# EAGLE library part WE-UNIT_NXP_750871035 (library wurth_elektronik_passive_rev16d)
Off-Line Transformer WE-Unit NXP - Nominal input voltage: 85-265 VAC - Operating temperature: -40°C to +125 °C - Isolation voltage 4 kVAC -- Especially designed for several ICs from NXP TEA1522T -- Universal input -- Smart meters -- Dimmable 12 V LED driver -- Offline-switch mode power supplies <http://katalog.we-online.de/media/images/ctm/UtUNIT_NXP_pf2.jpg> Details see: http://katalog.we-online.de/en/ctm/MID-UNIT_NXP/750871035? Updated by Dan Xu 2014-07-11 2014 (C) Würth Elektronik
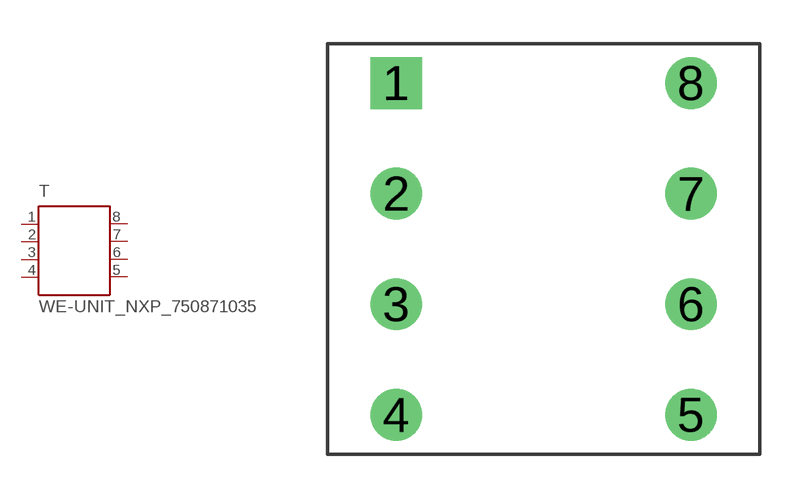
[diagram p56: symbol with the pads of WE_EE13/6/6_THT_HORIZONTAL_8PIN; footprint WE_EE13/6/6_THT_HORIZONTAL_8PIN]

Designator prefix T

## WE-UNIT_NXP_750871035  [WE_EE13/6/6_THT_HORIZONTAL_8PIN]
1  4  pas
2  3  pas
3  2  pas
4  1  pas
5  8  pas
6  7  pas
7  6  pas
8  5  pas

## Footprint WE_EE13/6/6_THT_HORIZONTAL_8PIN (pad centres in mm)
Transformer, EE13/6/6 THT Horizontal 8 Pins
drill 1.19 square: 1 -5.075,5.715
drill 1.19: 2 -5.075,1.905; 3 -5.075,-1.905; 4 -5.075,-5.715; 5 5.075,-5.715; 6 5.075,-1.905; 7 5.075,1.905; 8 5.075,5.715